# Altium footprint library Connector_PinSocket_2.54mm.PcbLib: 278 footprints (part 7 of 18)
Each footprint in its own frame and in the unit in brackets; x right, y up, seen from the top. Pads: shape width x height; smd on the part's side, far side on the other; paste and mask are expansions set on the pad; w line width, h text height; cw(c..) or ccw(c..) is an arc to the next point about the centre after c.
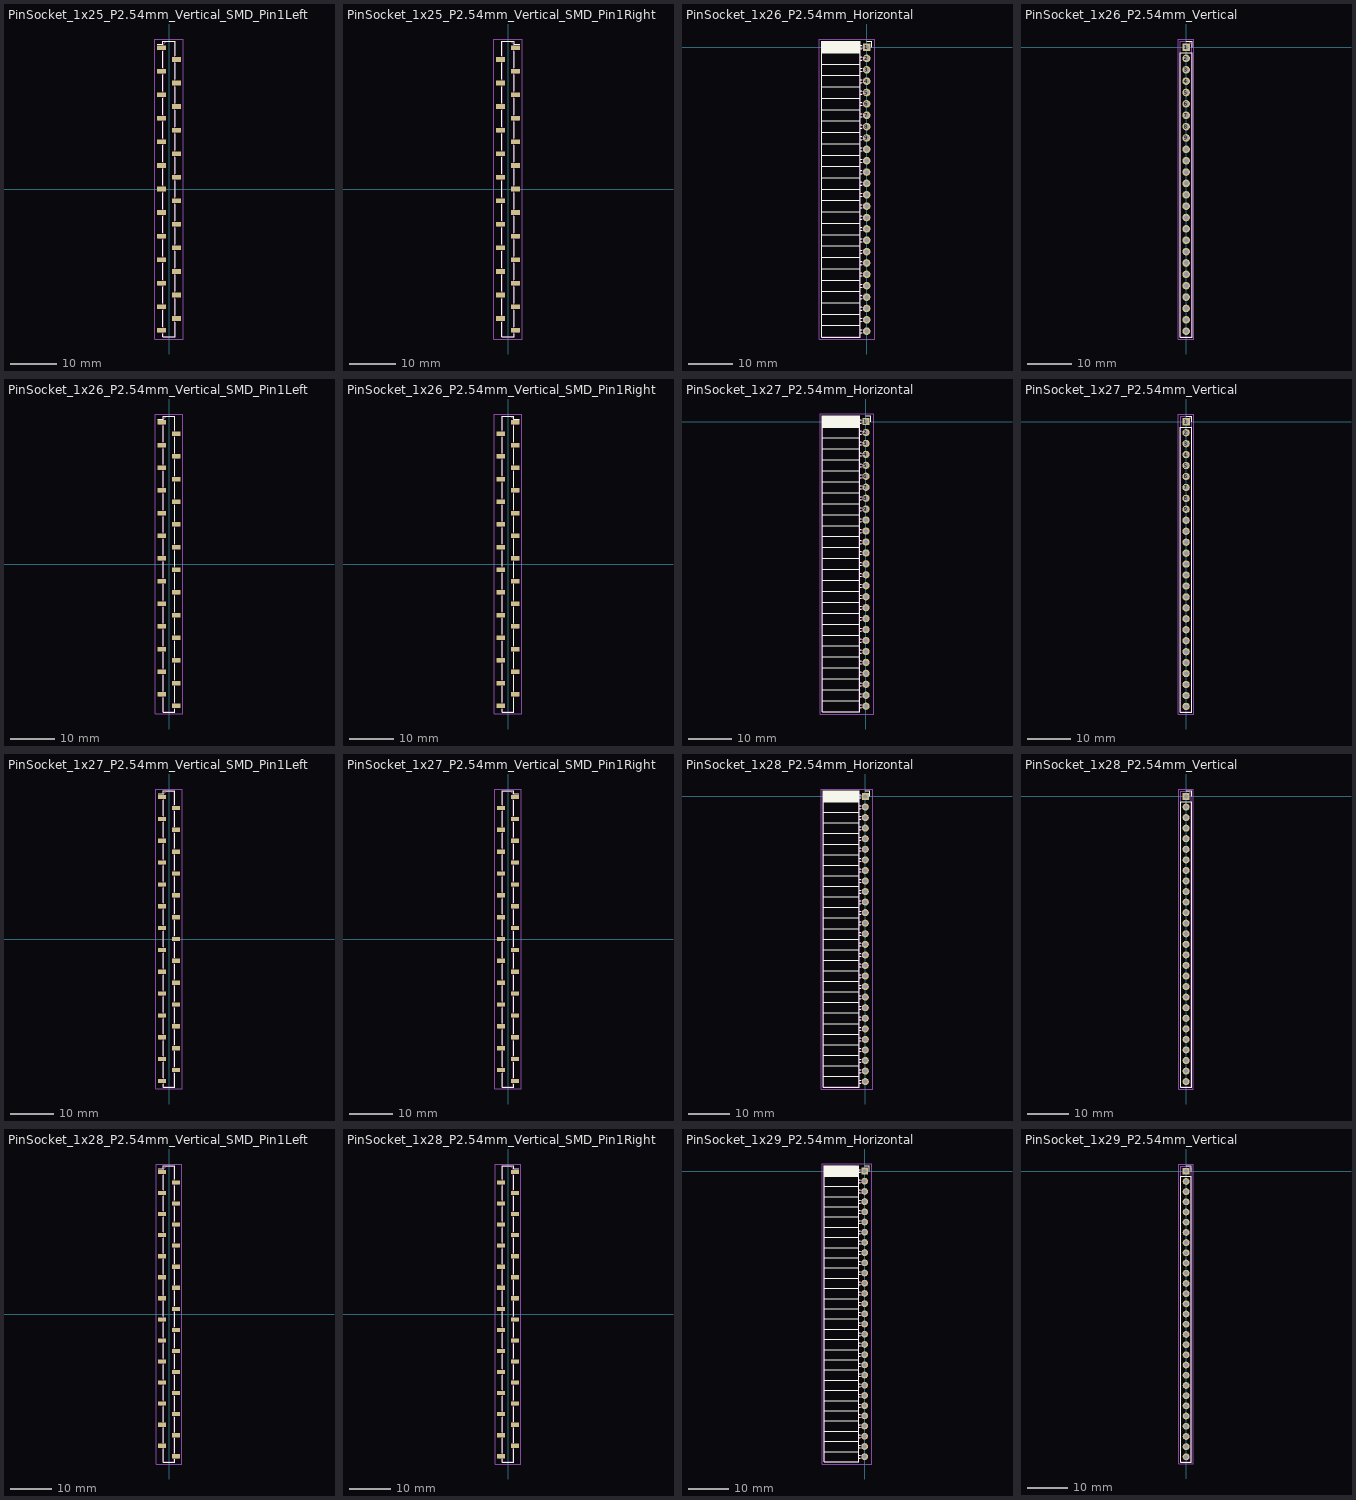
[diagram p6: the footprints below, top view; thin cyan lines are the x and y axes]

## PinSocket_1x25_P2.54mm_Vertical_SMD_Pin1Left [mm]
pads (25):
  rect 1.9x1 smd: 1(-1.65,30.48) 2(1.65,27.94) 3(-1.65,25.4) 4(1.65,22.86) 5(-1.65,20.32) 6(1.65,17.78) 7(-1.65,15.24) 8(1.65,12.7) 9(-1.65,10.16) 10(1.65,7.62) 11(-1.65,5.08) 12(1.65,2.54) 13(-1.65,0) 14(1.65,-2.54) 15(-1.65,-5.08) 16(1.65,-7.62) 17(-1.65,-10.16) 18(1.65,-12.7) 19(-1.65,-15.24) 20(1.65,-17.78) 21(-1.65,-20.32) 22(1.65,-22.86) 23(-1.65,-25.4) 24(1.65,-27.94) 25(-1.65,-30.48)
F.SilkS:
  lines w0.254: -2.54,31.24 -1.33,31.24 -1.33,31.91 1.33,31.91 1.33,28.7 ; -1.33,-31.24 -1.33,-31.91 1.33,-31.91 1.33,-28.7 ; -1.33,-29.72 -1.33,-26.16 ; -1.33,-24.64 -1.33,-21.08 ; -1.33,-19.56 -1.33,-16 ; -1.33,-14.48 -1.33,-10.92 ; -1.33,-9.4 -1.33,-5.84 ; -1.33,-4.32 -1.33,-0.76 ; -1.33,0.76 -1.33,4.32 ; -1.33,5.84 -1.33,9.4 ; -1.33,10.92 -1.33,14.48 ; -1.33,16 -1.33,19.56 ; -1.33,21.08 -1.33,24.64 ; -1.33,26.16 -1.33,29.72 ; 1.33,-27.18 1.33,-23.62 ; 1.33,-22.1 1.33,-18.54 ; 1.33,-17.02 1.33,-13.46 ; 1.33,-11.94 1.33,-8.38 ; 1.33,-6.86 1.33,-3.3 ; 1.33,-1.78 1.33,1.78 ; 1.33,3.3 1.33,6.86 ; 1.33,8.38 1.33,11.94 ; 1.33,13.46 1.33,17.02 ; 1.33,18.54 1.33,22.1 ; 1.33,23.62 1.33,27.18
Top Assembly:
  lines w0.254: -1.27,-30.78 -2.27,-30.78 -2.27,-30.18 -1.27,-30.18 ; -1.27,-25.7 -2.27,-25.7 -2.27,-25.1 -1.27,-25.1 ; -1.27,-20.62 -2.27,-20.62 -2.27,-20.02 -1.27,-20.02 ; -1.27,-15.54 -2.27,-15.54 -2.27,-14.94 -1.27,-14.94 ; -1.27,-10.46 -2.27,-10.46 -2.27,-9.86 -1.27,-9.86 ; -1.27,-5.38 -2.27,-5.38 -2.27,-4.78 -1.27,-4.78 ; -1.27,-0.3 -2.27,-0.3 -2.27,0.3 -1.27,0.3 ; -1.27,4.78 -2.27,4.78 -2.27,5.38 -1.27,5.38 ; -1.27,9.86 -2.27,9.86 -2.27,10.46 -1.27,10.46 ; -1.27,14.94 -2.27,14.94 -2.27,15.54 -1.27,15.54 ; -1.27,20.02 -2.27,20.02 -2.27,20.62 -1.27,20.62 ; -1.27,25.1 -2.27,25.1 -2.27,25.7 -1.27,25.7 ; -1.27,30.18 -2.27,30.18 -2.27,30.78 -1.27,30.78 ; 1.27,-28.24 2.27,-28.24 2.27,-27.64 1.27,-27.64 ; 1.27,-23.16 2.27,-23.16 2.27,-22.56 1.27,-22.56 ; 1.27,-18.08 2.27,-18.08 2.27,-17.48 1.27,-17.48 ; 1.27,-13 2.27,-13 2.27,-12.4 1.27,-12.4 ; 1.27,-7.92 2.27,-7.92 2.27,-7.32 1.27,-7.32 ; 1.27,-2.84 2.27,-2.84 2.27,-2.24 1.27,-2.24 ; 1.27,2.24 2.27,2.24 2.27,2.84 1.27,2.84 ; 1.27,7.32 2.27,7.32 2.27,7.92 1.27,7.92 ; 1.27,12.4 2.27,12.4 2.27,13 1.27,13 ; 1.27,17.48 2.27,17.48 2.27,18.08 1.27,18.08 ; 1.27,22.56 2.27,22.56 2.27,23.16 1.27,23.16 ; 1.27,27.64 2.27,27.64 2.27,28.24 1.27,28.24 ; -1.27,-31.85 1.27,-31.85 1.27,31.85 -0.635,31.85 -1.27,31.215 -1.27,-31.85
  text "'.Designator'" at 0.84,-4.047 h1
Top Courtyard:
  lines w0.254: -3.1,-32.35 3.1,-32.35 3.1,32.35 -3.1,32.35 -3.1,-32.35
Top Designator:
  text ".Designator" at -7.618,-0.508 h1.52

## PinSocket_1x25_P2.54mm_Vertical_SMD_Pin1Right [mm]
pads (25):
  rect 1.9x1 smd: 1(1.65,30.48) 2(-1.65,27.94) 3(1.65,25.4) 4(-1.65,22.86) 5(1.65,20.32) 6(-1.65,17.78) 7(1.65,15.24) 8(-1.65,12.7) 9(1.65,10.16) 10(-1.65,7.62) 11(1.65,5.08) 12(-1.65,2.54) 13(1.65,0) 14(-1.65,-2.54) 15(1.65,-5.08) 16(-1.65,-7.62) 17(1.65,-10.16) 18(-1.65,-12.7) 19(1.65,-15.24) 20(-1.65,-17.78) 21(1.65,-20.32) 22(-1.65,-22.86) 23(1.65,-25.4) 24(-1.65,-27.94) 25(1.65,-30.48)
F.SilkS:
  lines w0.254: -1.33,-28.7 -1.33,-31.91 1.33,-31.91 1.33,-31.24 ; -1.33,-27.18 -1.33,-23.62 ; -1.33,-22.1 -1.33,-18.54 ; -1.33,-17.02 -1.33,-13.46 ; -1.33,-11.94 -1.33,-8.38 ; -1.33,-6.86 -1.33,-3.3 ; -1.33,-1.78 -1.33,1.78 ; -1.33,3.3 -1.33,6.86 ; -1.33,8.38 -1.33,11.94 ; -1.33,13.46 -1.33,17.02 ; -1.33,18.54 -1.33,22.1 ; -1.33,23.62 -1.33,27.18 ; -1.33,28.7 -1.33,31.91 1.33,31.91 1.33,31.24 2.54,31.24 ; 1.33,-29.72 1.33,-26.16 ; 1.33,-24.64 1.33,-21.08 ; 1.33,-19.56 1.33,-16 ; 1.33,-14.48 1.33,-10.92 ; 1.33,-9.4 1.33,-5.84 ; 1.33,-4.32 1.33,-0.76 ; 1.33,0.76 1.33,4.32 ; 1.33,5.84 1.33,9.4 ; 1.33,10.92 1.33,14.48 ; 1.33,16 1.33,19.56 ; 1.33,21.08 1.33,24.64 ; 1.33,26.16 1.33,29.72
Top Assembly:
  lines w0.254: -1.27,-28.24 -2.27,-28.24 -2.27,-27.64 -1.27,-27.64 ; -1.27,-23.16 -2.27,-23.16 -2.27,-22.56 -1.27,-22.56 ; -1.27,-18.08 -2.27,-18.08 -2.27,-17.48 -1.27,-17.48 ; -1.27,-13 -2.27,-13 -2.27,-12.4 -1.27,-12.4 ; -1.27,-7.92 -2.27,-7.92 -2.27,-7.32 -1.27,-7.32 ; -1.27,-2.84 -2.27,-2.84 -2.27,-2.24 -1.27,-2.24 ; -1.27,2.24 -2.27,2.24 -2.27,2.84 -1.27,2.84 ; -1.27,7.32 -2.27,7.32 -2.27,7.92 -1.27,7.92 ; -1.27,12.4 -2.27,12.4 -2.27,13 -1.27,13 ; -1.27,17.48 -2.27,17.48 -2.27,18.08 -1.27,18.08 ; -1.27,22.56 -2.27,22.56 -2.27,23.16 -1.27,23.16 ; -1.27,27.64 -2.27,27.64 -2.27,28.24 -1.27,28.24 ; 1.27,-30.78 2.27,-30.78 2.27,-30.18 1.27,-30.18 ; 1.27,-25.7 2.27,-25.7 2.27,-25.1 1.27,-25.1 ; 1.27,-20.62 2.27,-20.62 2.27,-20.02 1.27,-20.02 ; 1.27,-15.54 2.27,-15.54 2.27,-14.94 1.27,-14.94 ; 1.27,-10.46 2.27,-10.46 2.27,-9.86 1.27,-9.86 ; 1.27,-5.38 2.27,-5.38 2.27,-4.78 1.27,-4.78 ; 1.27,-0.3 2.27,-0.3 2.27,0.3 1.27,0.3 ; 1.27,4.78 2.27,4.78 2.27,5.38 1.27,5.38 ; 1.27,9.86 2.27,9.86 2.27,10.46 1.27,10.46 ; 1.27,14.94 2.27,14.94 2.27,15.54 1.27,15.54 ; 1.27,20.02 2.27,20.02 2.27,20.62 1.27,20.62 ; 1.27,25.1 2.27,25.1 2.27,25.7 1.27,25.7 ; 1.27,30.18 2.27,30.18 2.27,30.78 1.27,30.78 ; -1.27,-31.85 1.27,-31.85 1.27,31.215 0.635,31.85 -1.27,31.85 -1.27,-31.85
  text "'.Designator'" at 0.84,-4.047 h1
Top Courtyard:
  lines w0.254: -3.1,-32.35 3.1,-32.35 3.1,32.35 -3.1,32.35 -3.1,-32.35
Top Designator:
  text ".Designator" at -7.618,-0.508 h1.52

## PinSocket_1x26_P2.54mm_Horizontal [mm]
pads (26):
  rect 1.7x1.7 hole 1: 1(0,0)
  round 1.7 hole 1: 2(0,-2.54) 3(0,-5.08) 4(0,-7.62) 5(0,-10.16) 6(0,-12.7) 7(0,-15.24) 8(0,-17.78) 9(0,-20.32) 10(0,-22.86) 11(0,-25.4) 12(0,-27.94) 13(0,-30.48) 14(0,-33.02) 15(0,-35.56) 16(0,-38.1) 17(0,-40.64) 18(0,-43.18) 19(0,-45.72) 20(0,-48.26) 21(0,-50.8) 22(0,-53.34) 23(0,-55.88) 24(0,-58.42) 25(0,-60.96) 26(0,-63.5)
F.SilkS:
  lines w0.254: -10.09,-62.23 -1.46,-62.23 ; -10.09,-59.69 -1.46,-59.69 ; -10.09,-57.15 -1.46,-57.15 ; -10.09,-54.61 -1.46,-54.61 ; -10.09,-52.07 -1.46,-52.07 ; -10.09,-49.53 -1.46,-49.53 ; -10.09,-46.99 -1.46,-46.99 ; -10.09,-44.45 -1.46,-44.45 ; -10.09,-41.91 -1.46,-41.91 ; -10.09,-39.37 -1.46,-39.37 ; -10.09,-36.83 -1.46,-36.83 ; -10.09,-34.29 -1.46,-34.29 ; -10.09,-31.75 -1.46,-31.75 ; -10.09,-29.21 -1.46,-29.21 ; -10.09,-26.67 -1.46,-26.67 ; -10.09,-24.13 -1.46,-24.13 ; -10.09,-21.59 -1.46,-21.59 ; -10.09,-19.05 -1.46,-19.05 ; -10.09,-16.51 -1.46,-16.51 ; -10.09,-13.97 -1.46,-13.97 ; -10.09,-11.43 -1.46,-11.43 ; -10.09,-8.89 -1.46,-8.89 ; -10.09,-6.35 -1.46,-6.35 ; -10.09,-3.81 -1.46,-3.81 ; -10.09,-1.27 -1.46,-1.27 ; -10.09,-1.152 -1.46,-1.152 ; -10.09,-1.034 -1.46,-1.034 ; -10.09,-0.916 -1.46,-0.916 ; -10.09,-0.798 -1.46,-0.798 ; -10.09,-0.68 -1.46,-0.68 ; -10.09,-0.561 -1.46,-0.561 ; -10.09,-0.443 -1.46,-0.443 ; -10.09,-0.325 -1.46,-0.325 ; -10.09,-0.207 -1.46,-0.207 ; -10.09,-0.089 -1.46,-0.089 ; -10.09,0.029 -1.46,0.029 ; -10.09,0.147 -1.46,0.147 ; -10.09,0.265 -1.46,0.265 ; -10.09,0.383 -1.46,0.383 ; -10.09,0.501 -1.46,0.501 ; -10.09,0.62 -1.46,0.62 ; -10.09,0.738 -1.46,0.738 ; -10.09,0.856 -1.46,0.856 ; -10.09,0.974 -1.46,0.974 ; -10.09,1.092 -1.46,1.092 ; -10.09,1.21 -1.46,1.21 ; -1.46,-63.86 -1.05,-63.86 ; -1.46,-63.14 -1.05,-63.14 ; -1.46,-61.32 -1.05,-61.32 ; -1.46,-60.6 -1.05,-60.6 ; -1.46,-58.78 -1.05,-58.78 ; -1.46,-58.06 -1.05,-58.06 ; -1.46,-56.24 -1.05,-56.24 ; -1.46,-55.52 -1.05,-55.52 ; -1.46,-53.7 -1.05,-53.7 ; -1.46,-52.98 -1.05,-52.98 ; -1.46,-51.16 -1.05,-51.16 ; -1.46,-50.44 -1.05,-50.44 ; -1.46,-48.62 -1.05,-48.62 ; -1.46,-47.9 -1.05,-47.9 ; -1.46,-46.08 -1.05,-46.08 ; -1.46,-45.36 -1.05,-45.36 ; -1.46,-43.54 -1.05,-43.54 ; -1.46,-42.82 -1.05,-42.82 ; -1.46,-41 -1.05,-41 ; -1.46,-40.28 -1.05,-40.28 ; -1.46,-38.46 -1.05,-38.46 ; -1.46,-37.74 -1.05,-37.74 ; -1.46,-35.92 -1.05,-35.92 ; -1.46,-35.2 -1.05,-35.2 ; -1.46,-33.38 -1.05,-33.38 ; -1.46,-32.66 -1.05,-32.66 ; -1.46,-30.84 -1.05,-30.84 ; -1.46,-30.12 -1.05,-30.12 ; -1.46,-28.3 -1.05,-28.3 ; -1.46,-27.58 -1.05,-27.58 ; -1.46,-25.76 -1.05,-25.76 ; -1.46,-25.04 -1.05,-25.04 ; -1.46,-23.22 -1.05,-23.22 ; -1.46,-22.5 -1.05,-22.5 ; -1.46,-20.68 -1.05,-20.68 ; -1.46,-19.96 -1.05,-19.96 ; -1.46,-18.14 -1.05,-18.14 ; -1.46,-17.42 -1.05,-17.42 ; -1.46,-15.6 -1.05,-15.6 ; -1.46,-14.88 -1.05,-14.88 ; -1.46,-13.06 -1.05,-13.06 ; -1.46,-12.34 -1.05,-12.34 ; -1.46,-10.52 -1.05,-10.52 ; -1.46,-9.8 -1.05,-9.8 ; -1.46,-7.98 -1.05,-7.98 ; -1.46,-7.26 -1.05,-7.26 ; -1.46,-5.44 -1.05,-5.44 ; -1.46,-4.72 -1.05,-4.72 ; -1.46,-2.9 -1.05,-2.9 ; -1.46,-2.18 -1.05,-2.18 ; -1.46,-0.36 -1.11,-0.36 ; -1.46,0.36 -1.11,0.36 ; 0,1.33 1.11,1.33 1.11,0 ; -10.09,-64.83 -1.46,-64.83 -1.46,1.33 -10.09,1.33 -10.09,-64.83
Top Assembly:
  lines w0.254: -1.52,-63.8 0,-63.8 0,-63.2 -1.52,-63.2 ; -1.52,-61.26 0,-61.26 0,-60.66 -1.52,-60.66 ; -1.52,-58.72 0,-58.72 0,-58.12 -1.52,-58.12 ; -1.52,-56.18 0,-56.18 0,-55.58 -1.52,-55.58 ; -1.52,-53.64 0,-53.64 0,-53.04 -1.52,-53.04 ; -1.52,-51.1 0,-51.1 0,-50.5 -1.52,-50.5 ; -1.52,-48.56 0,-48.56 0,-47.96 -1.52,-47.96 ; -1.52,-46.02 0,-46.02 0,-45.42 -1.52,-45.42 ; -1.52,-43.48 0,-43.48 0,-42.88 -1.52,-42.88 ; -1.52,-40.94 0,-40.94 0,-40.34 -1.52,-40.34 ; -1.52,-38.4 0,-38.4 0,-37.8 -1.52,-37.8 ; -1.52,-35.86 0,-35.86 0,-35.26 -1.52,-35.26 ; -1.52,-33.32 0,-33.32 0,-32.72 -1.52,-32.72 ; -1.52,-30.78 0,-30.78 0,-30.18 -1.52,-30.18 ; -1.52,-28.24 0,-28.24 0,-27.64 -1.52,-27.64 ; -1.52,-25.7 0,-25.7 0,-25.1 -1.52,-25.1 ; -1.52,-23.16 0,-23.16 0,-22.56 -1.52,-22.56 ; -1.52,-20.62 0,-20.62 0,-20.02 -1.52,-20.02 ; -1.52,-18.08 0,-18.08 0,-17.48 -1.52,-17.48 ; -1.52,-15.54 0,-15.54 0,-14.94 -1.52,-14.94 ; -1.52,-13 0,-13 0,-12.4 -1.52,-12.4 ; -1.52,-10.46 0,-10.46 0,-9.86 -1.52,-9.86 ; -1.52,-7.92 0,-7.92 0,-7.32 -1.52,-7.32 ; -1.52,-5.38 0,-5.38 0,-4.78 -1.52,-4.78 ; -1.52,-2.84 0,-2.84 0,-2.24 -1.52,-2.24 ; -1.52,-0.3 0,-0.3 0,0.3 -1.52,0.3 ; -1.52,0.3 -1.52,-64.77 -10.03,-64.77 -10.03,1.27 -2.49,1.27 -1.52,0.3
  text "'.Designator'" at -4.935,-35.797 h1
Top Courtyard:
  lines w0.254: -10.55,-65.25 1.75,-65.25 1.75,1.8 -10.55,1.8 -10.55,-65.25
Top Designator:
  text ".Designator" at -12.018,-32.233 h1.52

## PinSocket_1x26_P2.54mm_Vertical [mm]
pads (26):
  rect 1.7x1.7 hole 1: 1(0,0)
  round 1.7 hole 1: 2(0,-2.54) 3(0,-5.08) 4(0,-7.62) 5(0,-10.16) 6(0,-12.7) 7(0,-15.24) 8(0,-17.78) 9(0,-20.32) 10(0,-22.86) 11(0,-25.4) 12(0,-27.94) 13(0,-30.48) 14(0,-33.02) 15(0,-35.56) 16(0,-38.1) 17(0,-40.64) 18(0,-43.18) 19(0,-45.72) 20(0,-48.26) 21(0,-50.8) 22(0,-53.34) 23(0,-55.88) 24(0,-58.42) 25(0,-60.96) 26(0,-63.5)
F.SilkS:
  lines w0.254: 0,1.33 1.33,1.33 1.33,0 ; -1.33,-64.83 1.33,-64.83 1.33,-1.27 -1.33,-1.27 -1.33,-64.83
Top Assembly:
  lines w0.254: -1.27,-64.77 1.27,-64.77 1.27,0.635 0.635,1.27 -1.27,1.27 -1.27,-64.77
  text "'.Designator'" at 0.84,-35.797 h1
Top Courtyard:
  lines w0.254: -1.8,-65.25 1.75,-65.25 1.75,1.8 -1.8,1.8 -1.8,-65.25
Top Designator:
  text ".Designator" at -7.643,-32.233 h1.52

## PinSocket_1x26_P2.54mm_Vertical_SMD_Pin1Left [mm]
pads (26):
  rect 1.9x1 smd: 1(-1.65,31.75) 2(1.65,29.21) 3(-1.65,26.67) 4(1.65,24.13) 5(-1.65,21.59) 6(1.65,19.05) 7(-1.65,16.51) 8(1.65,13.97) 9(-1.65,11.43) 10(1.65,8.89) 11(-1.65,6.35) 12(1.65,3.81) 13(-1.65,1.27) 14(1.65,-1.27) 15(-1.65,-3.81) 16(1.65,-6.35) 17(-1.65,-8.89) 18(1.65,-11.43) 19(-1.65,-13.97) 20(1.65,-16.51) 21(-1.65,-19.05) 22(1.65,-21.59) 23(-1.65,-24.13) 24(1.65,-26.67) 25(-1.65,-29.21) 26(1.65,-31.75)
F.SilkS:
  lines w0.254: -2.54,32.51 -1.33,32.51 -1.33,33.18 1.33,33.18 1.33,29.97 ; -1.33,-29.97 -1.33,-33.18 1.33,-33.18 1.33,-32.51 ; -1.33,-28.45 -1.33,-24.89 ; -1.33,-23.37 -1.33,-19.81 ; -1.33,-18.29 -1.33,-14.73 ; -1.33,-13.21 -1.33,-9.65 ; -1.33,-8.13 -1.33,-4.57 ; -1.33,-3.05 -1.33,0.51 ; -1.33,2.03 -1.33,5.59 ; -1.33,7.11 -1.33,10.67 ; -1.33,12.19 -1.33,15.75 ; -1.33,17.27 -1.33,20.83 ; -1.33,22.35 -1.33,25.91 ; -1.33,27.43 -1.33,30.99 ; 1.33,-30.99 1.33,-27.43 ; 1.33,-25.91 1.33,-22.35 ; 1.33,-20.83 1.33,-17.27 ; 1.33,-15.75 1.33,-12.19 ; 1.33,-10.67 1.33,-7.11 ; 1.33,-5.59 1.33,-2.03 ; 1.33,-0.51 1.33,3.05 ; 1.33,4.57 1.33,8.13 ; 1.33,9.65 1.33,13.21 ; 1.33,14.73 1.33,18.29 ; 1.33,19.81 1.33,23.37 ; 1.33,24.89 1.33,28.45
Top Assembly:
  lines w0.254: -1.27,-29.51 -2.27,-29.51 -2.27,-28.91 -1.27,-28.91 ; -1.27,-24.43 -2.27,-24.43 -2.27,-23.83 -1.27,-23.83 ; -1.27,-19.35 -2.27,-19.35 -2.27,-18.75 -1.27,-18.75 ; -1.27,-14.27 -2.27,-14.27 -2.27,-13.67 -1.27,-13.67 ; -1.27,-9.19 -2.27,-9.19 -2.27,-8.59 -1.27,-8.59 ; -1.27,-4.11 -2.27,-4.11 -2.27,-3.51 -1.27,-3.51 ; -1.27,0.97 -2.27,0.97 -2.27,1.57 -1.27,1.57 ; -1.27,6.05 -2.27,6.05 -2.27,6.65 -1.27,6.65 ; -1.27,11.13 -2.27,11.13 -2.27,11.73 -1.27,11.73 ; -1.27,16.21 -2.27,16.21 -2.27,16.81 -1.27,16.81 ; -1.27,21.29 -2.27,21.29 -2.27,21.89 -1.27,21.89 ; -1.27,26.37 -2.27,26.37 -2.27,26.97 -1.27,26.97 ; -1.27,31.45 -2.27,31.45 -2.27,32.05 -1.27,32.05 ; 1.27,-32.05 2.27,-32.05 2.27,-31.45 1.27,-31.45 ; 1.27,-26.97 2.27,-26.97 2.27,-26.37 1.27,-26.37 ; 1.27,-21.89 2.27,-21.89 2.27,-21.29 1.27,-21.29 ; 1.27,-16.81 2.27,-16.81 2.27,-16.21 1.27,-16.21 ; 1.27,-11.73 2.27,-11.73 2.27,-11.13 1.27,-11.13 ; 1.27,-6.65 2.27,-6.65 2.27,-6.05 1.27,-6.05 ; 1.27,-1.57 2.27,-1.57 2.27,-0.97 1.27,-0.97 ; 1.27,3.51 2.27,3.51 2.27,4.11 1.27,4.11 ; 1.27,8.59 2.27,8.59 2.27,9.19 1.27,9.19 ; 1.27,13.67 2.27,13.67 2.27,14.27 1.27,14.27 ; 1.27,18.75 2.27,18.75 2.27,19.35 1.27,19.35 ; 1.27,23.83 2.27,23.83 2.27,24.43 1.27,24.43 ; 1.27,28.91 2.27,28.91 2.27,29.51 1.27,29.51 ; -1.27,-33.12 1.27,-33.12 1.27,33.12 -0.635,33.12 -1.27,32.485 -1.27,-33.12
  text "'.Designator'" at 0.84,-4.047 h1
Top Courtyard:
  lines w0.254: -3.1,-33.6 3.1,-33.6 3.1,33.65 -3.1,33.65 -3.1,-33.6
Top Designator:
  text ".Designator" at -7.618,-0.483 h1.52

## PinSocket_1x26_P2.54mm_Vertical_SMD_Pin1Right [mm]
pads (26):
  rect 1.9x1 smd: 1(1.65,31.75) 2(-1.65,29.21) 3(1.65,26.67) 4(-1.65,24.13) 5(1.65,21.59) 6(-1.65,19.05) 7(1.65,16.51) 8(-1.65,13.97) 9(1.65,11.43) 10(-1.65,8.89) 11(1.65,6.35) 12(-1.65,3.81) 13(1.65,1.27) 14(-1.65,-1.27) 15(1.65,-3.81) 16(-1.65,-6.35) 17(1.65,-8.89) 18(-1.65,-11.43) 19(1.65,-13.97) 20(-1.65,-16.51) 21(1.65,-19.05) 22(-1.65,-21.59) 23(1.65,-24.13) 24(-1.65,-26.67) 25(1.65,-29.21) 26(-1.65,-31.75)
F.SilkS:
  lines w0.254: -1.33,-32.51 -1.33,-33.18 1.33,-33.18 1.33,-29.97 ; -1.33,-30.99 -1.33,-27.43 ; -1.33,-25.91 -1.33,-22.35 ; -1.33,-20.83 -1.33,-17.27 ; -1.33,-15.75 -1.33,-12.19 ; -1.33,-10.67 -1.33,-7.11 ; -1.33,-5.59 -1.33,-2.03 ; -1.33,-0.51 -1.33,3.05 ; -1.33,4.57 -1.33,8.13 ; -1.33,9.65 -1.33,13.21 ; -1.33,14.73 -1.33,18.29 ; -1.33,19.81 -1.33,23.37 ; -1.33,24.89 -1.33,28.45 ; -1.33,29.97 -1.33,33.18 1.33,33.18 1.33,32.51 2.54,32.51 ; 1.33,-28.45 1.33,-24.89 ; 1.33,-23.37 1.33,-19.81 ; 1.33,-18.29 1.33,-14.73 ; 1.33,-13.21 1.33,-9.65 ; 1.33,-8.13 1.33,-4.57 ; 1.33,-3.05 1.33,0.51 ; 1.33,2.03 1.33,5.59 ; 1.33,7.11 1.33,10.67 ; 1.33,12.19 1.33,15.75 ; 1.33,17.27 1.33,20.83 ; 1.33,22.35 1.33,25.91 ; 1.33,27.43 1.33,30.99
Top Assembly:
  lines w0.254: -1.27,-32.05 -2.27,-32.05 -2.27,-31.45 -1.27,-31.45 ; -1.27,-26.97 -2.27,-26.97 -2.27,-26.37 -1.27,-26.37 ; -1.27,-21.89 -2.27,-21.89 -2.27,-21.29 -1.27,-21.29 ; -1.27,-16.81 -2.27,-16.81 -2.27,-16.21 -1.27,-16.21 ; -1.27,-11.73 -2.27,-11.73 -2.27,-11.13 -1.27,-11.13 ; -1.27,-6.65 -2.27,-6.65 -2.27,-6.05 -1.27,-6.05 ; -1.27,-1.57 -2.27,-1.57 -2.27,-0.97 -1.27,-0.97 ; -1.27,3.51 -2.27,3.51 -2.27,4.11 -1.27,4.11 ; -1.27,8.59 -2.27,8.59 -2.27,9.19 -1.27,9.19 ; -1.27,13.67 -2.27,13.67 -2.27,14.27 -1.27,14.27 ; -1.27,18.75 -2.27,18.75 -2.27,19.35 -1.27,19.35 ; -1.27,23.83 -2.27,23.83 -2.27,24.43 -1.27,24.43 ; -1.27,28.91 -2.27,28.91 -2.27,29.51 -1.27,29.51 ; 1.27,-29.51 2.27,-29.51 2.27,-28.91 1.27,-28.91 ; 1.27,-24.43 2.27,-24.43 2.27,-23.83 1.27,-23.83 ; 1.27,-19.35 2.27,-19.35 2.27,-18.75 1.27,-18.75 ; 1.27,-14.27 2.27,-14.27 2.27,-13.67 1.27,-13.67 ; 1.27,-9.19 2.27,-9.19 2.27,-8.59 1.27,-8.59 ; 1.27,-4.11 2.27,-4.11 2.27,-3.51 1.27,-3.51 ; 1.27,0.97 2.27,0.97 2.27,1.57 1.27,1.57 ; 1.27,6.05 2.27,6.05 2.27,6.65 1.27,6.65 ; 1.27,11.13 2.27,11.13 2.27,11.73 1.27,11.73 ; 1.27,16.21 2.27,16.21 2.27,16.81 1.27,16.81 ; 1.27,21.29 2.27,21.29 2.27,21.89 1.27,21.89 ; 1.27,26.37 2.27,26.37 2.27,26.97 1.27,26.97 ; 1.27,31.45 2.27,31.45 2.27,32.05 1.27,32.05 ; -1.27,-33.12 1.27,-33.12 1.27,32.485 0.635,33.12 -1.27,33.12 -1.27,-33.12
  text "'.Designator'" at 0.84,-4.047 h1
Top Courtyard:
  lines w0.254: -3.1,-33.6 3.1,-33.6 3.1,33.65 -3.1,33.65 -3.1,-33.6
Top Designator:
  text ".Designator" at -7.618,-0.483 h1.52

## PinSocket_1x27_P2.54mm_Horizontal [mm]
pads (27):
  rect 1.7x1.7 hole 1: 1(0,0)
  round 1.7 hole 1: 2(0,-2.54) 3(0,-5.08) 4(0,-7.62) 5(0,-10.16) 6(0,-12.7) 7(0,-15.24) 8(0,-17.78) 9(0,-20.32) 10(0,-22.86) 11(0,-25.4) 12(0,-27.94) 13(0,-30.48) 14(0,-33.02) 15(0,-35.56) 16(0,-38.1) 17(0,-40.64) 18(0,-43.18) 19(0,-45.72) 20(0,-48.26) 21(0,-50.8) 22(0,-53.34) 23(0,-55.88) 24(0,-58.42) 25(0,-60.96) 26(0,-63.5) 27(0,-66.04)
F.SilkS:
  lines w0.254: -10.09,-64.77 -1.46,-64.77 ; -10.09,-62.23 -1.46,-62.23 ; -10.09,-59.69 -1.46,-59.69 ; -10.09,-57.15 -1.46,-57.15 ; -10.09,-54.61 -1.46,-54.61 ; -10.09,-52.07 -1.46,-52.07 ; -10.09,-49.53 -1.46,-49.53 ; -10.09,-46.99 -1.46,-46.99 ; -10.09,-44.45 -1.46,-44.45 ; -10.09,-41.91 -1.46,-41.91 ; -10.09,-39.37 -1.46,-39.37 ; -10.09,-36.83 -1.46,-36.83 ; -10.09,-34.29 -1.46,-34.29 ; -10.09,-31.75 -1.46,-31.75 ; -10.09,-29.21 -1.46,-29.21 ; -10.09,-26.67 -1.46,-26.67 ; -10.09,-24.13 -1.46,-24.13 ; -10.09,-21.59 -1.46,-21.59 ; -10.09,-19.05 -1.46,-19.05 ; -10.09,-16.51 -1.46,-16.51 ; -10.09,-13.97 -1.46,-13.97 ; -10.09,-11.43 -1.46,-11.43 ; -10.09,-8.89 -1.46,-8.89 ; -10.09,-6.35 -1.46,-6.35 ; -10.09,-3.81 -1.46,-3.81 ; -10.09,-1.27 -1.46,-1.27 ; -10.09,-1.152 -1.46,-1.152 ; -10.09,-1.034 -1.46,-1.034 ; -10.09,-0.916 -1.46,-0.916 ; -10.09,-0.798 -1.46,-0.798 ; -10.09,-0.68 -1.46,-0.68 ; -10.09,-0.561 -1.46,-0.561 ; -10.09,-0.443 -1.46,-0.443 ; -10.09,-0.325 -1.46,-0.325 ; -10.09,-0.207 -1.46,-0.207 ; -10.09,-0.089 -1.46,-0.089 ; -10.09,0.029 -1.46,0.029 ; -10.09,0.147 -1.46,0.147 ; -10.09,0.265 -1.46,0.265 ; -10.09,0.383 -1.46,0.383 ; -10.09,0.501 -1.46,0.501 ; -10.09,0.62 -1.46,0.62 ; -10.09,0.738 -1.46,0.738 ; -10.09,0.856 -1.46,0.856 ; -10.09,0.974 -1.46,0.974 ; -10.09,1.092 -1.46,1.092 ; -10.09,1.21 -1.46,1.21 ; -1.46,-66.4 -1.05,-66.4 ; -1.46,-65.68 -1.05,-65.68 ; -1.46,-63.86 -1.05,-63.86 ; -1.46,-63.14 -1.05,-63.14 ; -1.46,-61.32 -1.05,-61.32 ; -1.46,-60.6 -1.05,-60.6 ; -1.46,-58.78 -1.05,-58.78 ; -1.46,-58.06 -1.05,-58.06 ; -1.46,-56.24 -1.05,-56.24 ; -1.46,-55.52 -1.05,-55.52 ; -1.46,-53.7 -1.05,-53.7 ; -1.46,-52.98 -1.05,-52.98 ; -1.46,-51.16 -1.05,-51.16 ; -1.46,-50.44 -1.05,-50.44 ; -1.46,-48.62 -1.05,-48.62 ; -1.46,-47.9 -1.05,-47.9 ; -1.46,-46.08 -1.05,-46.08 ; -1.46,-45.36 -1.05,-45.36 ; -1.46,-43.54 -1.05,-43.54 ; -1.46,-42.82 -1.05,-42.82 ; -1.46,-41 -1.05,-41 ; -1.46,-40.28 -1.05,-40.28 ; -1.46,-38.46 -1.05,-38.46 ; -1.46,-37.74 -1.05,-37.74 ; -1.46,-35.92 -1.05,-35.92 ; -1.46,-35.2 -1.05,-35.2 ; -1.46,-33.38 -1.05,-33.38 ; -1.46,-32.66 -1.05,-32.66 ; -1.46,-30.84 -1.05,-30.84 ; -1.46,-30.12 -1.05,-30.12 ; -1.46,-28.3 -1.05,-28.3 ; -1.46,-27.58 -1.05,-27.58 ; -1.46,-25.76 -1.05,-25.76 ; -1.46,-25.04 -1.05,-25.04 ; -1.46,-23.22 -1.05,-23.22 ; -1.46,-22.5 -1.05,-22.5 ; -1.46,-20.68 -1.05,-20.68 ; -1.46,-19.96 -1.05,-19.96 ; -1.46,-18.14 -1.05,-18.14 ; -1.46,-17.42 -1.05,-17.42 ; -1.46,-15.6 -1.05,-15.6 ; -1.46,-14.88 -1.05,-14.88 ; -1.46,-13.06 -1.05,-13.06 ; -1.46,-12.34 -1.05,-12.34 ; -1.46,-10.52 -1.05,-10.52 ; -1.46,-9.8 -1.05,-9.8 ; -1.46,-7.98 -1.05,-7.98 ; -1.46,-7.26 -1.05,-7.26 ; -1.46,-5.44 -1.05,-5.44 ; -1.46,-4.72 -1.05,-4.72 ; -1.46,-2.9 -1.05,-2.9 ; -1.46,-2.18 -1.05,-2.18 ; -1.46,-0.36 -1.11,-0.36 ; -1.46,0.36 -1.11,0.36 ; 0,1.33 1.11,1.33 1.11,0 ; -10.09,-67.37 -1.46,-67.37 -1.46,1.33 -10.09,1.33 -10.09,-67.37
Top Assembly:
  lines w0.254: -1.52,-66.34 0,-66.34 0,-65.74 -1.52,-65.74 ; -1.52,-63.8 0,-63.8 0,-63.2 -1.52,-63.2 ; -1.52,-61.26 0,-61.26 0,-60.66 -1.52,-60.66 ; -1.52,-58.72 0,-58.72 0,-58.12 -1.52,-58.12 ; -1.52,-56.18 0,-56.18 0,-55.58 -1.52,-55.58 ; -1.52,-53.64 0,-53.64 0,-53.04 -1.52,-53.04 ; -1.52,-51.1 0,-51.1 0,-50.5 -1.52,-50.5 ; -1.52,-48.56 0,-48.56 0,-47.96 -1.52,-47.96 ; -1.52,-46.02 0,-46.02 0,-45.42 -1.52,-45.42 ; -1.52,-43.48 0,-43.48 0,-42.88 -1.52,-42.88 ; -1.52,-40.94 0,-40.94 0,-40.34 -1.52,-40.34 ; -1.52,-38.4 0,-38.4 0,-37.8 -1.52,-37.8 ; -1.52,-35.86 0,-35.86 0,-35.26 -1.52,-35.26 ; -1.52,-33.32 0,-33.32 0,-32.72 -1.52,-32.72 ; -1.52,-30.78 0,-30.78 0,-30.18 -1.52,-30.18 ; -1.52,-28.24 0,-28.24 0,-27.64 -1.52,-27.64 ; -1.52,-25.7 0,-25.7 0,-25.1 -1.52,-25.1 ; -1.52,-23.16 0,-23.16 0,-22.56 -1.52,-22.56 ; -1.52,-20.62 0,-20.62 0,-20.02 -1.52,-20.02 ; -1.52,-18.08 0,-18.08 0,-17.48 -1.52,-17.48 ; -1.52,-15.54 0,-15.54 0,-14.94 -1.52,-14.94 ; -1.52,-13 0,-13 0,-12.4 -1.52,-12.4 ; -1.52,-10.46 0,-10.46 0,-9.86 -1.52,-9.86 ; -1.52,-7.92 0,-7.92 0,-7.32 -1.52,-7.32 ; -1.52,-5.38 0,-5.38 0,-4.78 -1.52,-4.78 ; -1.52,-2.84 0,-2.84 0,-2.24 -1.52,-2.24 ; -1.52,-0.3 0,-0.3 0,0.3 -1.52,0.3 ; -1.52,0.3 -1.52,-67.31 -10.03,-67.31 -10.03,1.27 -2.49,1.27 -1.52,0.3
  text "'.Designator'" at -4.935,-37.067 h1
Top Courtyard:
  lines w0.254: -10.55,-67.85 1.75,-67.85 1.75,1.75 -10.55,1.75 -10.55,-67.85
Top Designator:
  text ".Designator" at -12.018,-33.558 h1.52

## PinSocket_1x27_P2.54mm_Vertical [mm]
pads (27):
  rect 1.7x1.7 hole 1: 1(0,0)
  round 1.7 hole 1: 2(0,-2.54) 3(0,-5.08) 4(0,-7.62) 5(0,-10.16) 6(0,-12.7) 7(0,-15.24) 8(0,-17.78) 9(0,-20.32) 10(0,-22.86) 11(0,-25.4) 12(0,-27.94) 13(0,-30.48) 14(0,-33.02) 15(0,-35.56) 16(0,-38.1) 17(0,-40.64) 18(0,-43.18) 19(0,-45.72) 20(0,-48.26) 21(0,-50.8) 22(0,-53.34) 23(0,-55.88) 24(0,-58.42) 25(0,-60.96) 26(0,-63.5) 27(0,-66.04)
F.SilkS:
  lines w0.254: 0,1.33 1.33,1.33 1.33,0 ; -1.33,-67.37 1.33,-67.37 1.33,-1.27 -1.33,-1.27 -1.33,-67.37
Top Assembly:
  lines w0.254: -1.27,-67.31 1.27,-67.31 1.27,0.635 0.635,1.27 -1.27,1.27 -1.27,-67.31
  text "'.Designator'" at 0.84,-37.067 h1
Top Courtyard:
  lines w0.254: -1.8,-67.8 1.75,-67.8 1.75,1.8 -1.8,1.8 -1.8,-67.8
Top Designator:
  text ".Designator" at -7.643,-33.508 h1.52

## PinSocket_1x27_P2.54mm_Vertical_SMD_Pin1Left [mm]
pads (27):
  rect 1.9x1 smd: 1(-1.65,33.02) 2(1.65,30.48) 3(-1.65,27.94) 4(1.65,25.4) 5(-1.65,22.86) 6(1.65,20.32) 7(-1.65,17.78) 8(1.65,15.24) 9(-1.65,12.7) 10(1.65,10.16) 11(-1.65,7.62) 12(1.65,5.08) 13(-1.65,2.54) 14(1.65,0) 15(-1.65,-2.54) 16(1.65,-5.08) 17(-1.65,-7.62) 18(1.65,-10.16) 19(-1.65,-12.7) 20(1.65,-15.24) 21(-1.65,-17.78) 22(1.65,-20.32) 23(-1.65,-22.86) 24(1.65,-25.4) 25(-1.65,-27.94) 26(1.65,-30.48) 27(-1.65,-33.02)
F.SilkS:
  lines w0.254: -2.54,33.78 -1.33,33.78 -1.33,34.45 1.33,34.45 1.33,31.24 ; -1.33,-33.78 -1.33,-34.45 1.33,-34.45 1.33,-31.24 ; -1.33,-32.26 -1.33,-28.7 ; -1.33,-27.18 -1.33,-23.62 ; -1.33,-22.1 -1.33,-18.54 ; -1.33,-17.02 -1.33,-13.46 ; -1.33,-11.94 -1.33,-8.38 ; -1.33,-6.86 -1.33,-3.3 ; -1.33,-1.78 -1.33,1.78 ; -1.33,3.3 -1.33,6.86 ; -1.33,8.38 -1.33,11.94 ; -1.33,13.46 -1.33,17.02 ; -1.33,18.54 -1.33,22.1 ; -1.33,23.62 -1.33,27.18 ; -1.33,28.7 -1.33,32.26 ; 1.33,-29.72 1.33,-26.16 ; 1.33,-24.64 1.33,-21.08 ; 1.33,-19.56 1.33,-16 ; 1.33,-14.48 1.33,-10.92 ; 1.33,-9.4 1.33,-5.84 ; 1.33,-4.32 1.33,-0.76 ; 1.33,0.76 1.33,4.32 ; 1.33,5.84 1.33,9.4 ; 1.33,10.92 1.33,14.48 ; 1.33,16 1.33,19.56 ; 1.33,21.08 1.33,24.64 ; 1.33,26.16 1.33,29.72
Top Assembly:
  lines w0.254: -1.27,-33.32 -2.27,-33.32 -2.27,-32.72 -1.27,-32.72 ; -1.27,-28.24 -2.27,-28.24 -2.27,-27.64 -1.27,-27.64 ; -1.27,-23.16 -2.27,-23.16 -2.27,-22.56 -1.27,-22.56 ; -1.27,-18.08 -2.27,-18.08 -2.27,-17.48 -1.27,-17.48 ; -1.27,-13 -2.27,-13 -2.27,-12.4 -1.27,-12.4 ; -1.27,-7.92 -2.27,-7.92 -2.27,-7.32 -1.27,-7.32 ; -1.27,-2.84 -2.27,-2.84 -2.27,-2.24 -1.27,-2.24 ; -1.27,2.24 -2.27,2.24 -2.27,2.84 -1.27,2.84 ; -1.27,7.32 -2.27,7.32 -2.27,7.92 -1.27,7.92 ; -1.27,12.4 -2.27,12.4 -2.27,13 -1.27,13 ; -1.27,17.48 -2.27,17.48 -2.27,18.08 -1.27,18.08 ; -1.27,22.56 -2.27,22.56 -2.27,23.16 -1.27,23.16 ; -1.27,27.64 -2.27,27.64 -2.27,28.24 -1.27,28.24 ; -1.27,32.72 -2.27,32.72 -2.27,33.32 -1.27,33.32 ; 1.27,-30.78 2.27,-30.78 2.27,-30.18 1.27,-30.18 ; 1.27,-25.7 2.27,-25.7 2.27,-25.1 1.27,-25.1 ; 1.27,-20.62 2.27,-20.62 2.27,-20.02 1.27,-20.02 ; 1.27,-15.54 2.27,-15.54 2.27,-14.94 1.27,-14.94 ; 1.27,-10.46 2.27,-10.46 2.27,-9.86 1.27,-9.86 ; 1.27,-5.38 2.27,-5.38 2.27,-4.78 1.27,-4.78 ; 1.27,-0.3 2.27,-0.3 2.27,0.3 1.27,0.3 ; 1.27,4.78 2.27,4.78 2.27,5.38 1.27,5.38 ; 1.27,9.86 2.27,9.86 2.27,10.46 1.27,10.46 ; 1.27,14.94 2.27,14.94 2.27,15.54 1.27,15.54 ; 1.27,20.02 2.27,20.02 2.27,20.62 1.27,20.62 ; 1.27,25.1 2.27,25.1 2.27,25.7 1.27,25.7 ; 1.27,30.18 2.27,30.18 2.27,30.78 1.27,30.78 ; -1.27,-34.39 1.27,-34.39 1.27,34.39 -0.635,34.39 -1.27,33.755 -1.27,-34.39
  text "'.Designator'" at 0.84,-4.047 h1
Top Courtyard:
  lines w0.254: -3.1,-34.9 3.1,-34.9 3.1,34.9 -3.1,34.9 -3.1,-34.9
Top Designator:
  text ".Designator" at -7.618,-0.508 h1.52

## PinSocket_1x27_P2.54mm_Vertical_SMD_Pin1Right [mm]
pads (27):
  rect 1.9x1 smd: 1(1.65,33.02) 2(-1.65,30.48) 3(1.65,27.94) 4(-1.65,25.4) 5(1.65,22.86) 6(-1.65,20.32) 7(1.65,17.78) 8(-1.65,15.24) 9(1.65,12.7) 10(-1.65,10.16) 11(1.65,7.62) 12(-1.65,5.08) 13(1.65,2.54) 14(-1.65,0) 15(1.65,-2.54) 16(-1.65,-5.08) 17(1.65,-7.62) 18(-1.65,-10.16) 19(1.65,-12.7) 20(-1.65,-15.24) 21(1.65,-17.78) 22(-1.65,-20.32) 23(1.65,-22.86) 24(-1.65,-25.4) 25(1.65,-27.94) 26(-1.65,-30.48) 27(1.65,-33.02)
F.SilkS:
  lines w0.254: -1.33,-31.24 -1.33,-34.45 1.33,-34.45 1.33,-33.78 ; -1.33,-29.72 -1.33,-26.16 ; -1.33,-24.64 -1.33,-21.08 ; -1.33,-19.56 -1.33,-16 ; -1.33,-14.48 -1.33,-10.92 ; -1.33,-9.4 -1.33,-5.84 ; -1.33,-4.32 -1.33,-0.76 ; -1.33,0.76 -1.33,4.32 ; -1.33,5.84 -1.33,9.4 ; -1.33,10.92 -1.33,14.48 ; -1.33,16 -1.33,19.56 ; -1.33,21.08 -1.33,24.64 ; -1.33,26.16 -1.33,29.72 ; -1.33,31.24 -1.33,34.45 1.33,34.45 1.33,33.78 2.54,33.78 ; 1.33,-32.26 1.33,-28.7 ; 1.33,-27.18 1.33,-23.62 ; 1.33,-22.1 1.33,-18.54 ; 1.33,-17.02 1.33,-13.46 ; 1.33,-11.94 1.33,-8.38 ; 1.33,-6.86 1.33,-3.3 ; 1.33,-1.78 1.33,1.78 ; 1.33,3.3 1.33,6.86 ; 1.33,8.38 1.33,11.94 ; 1.33,13.46 1.33,17.02 ; 1.33,18.54 1.33,22.1 ; 1.33,23.62 1.33,27.18 ; 1.33,28.7 1.33,32.26
Top Assembly:
  lines w0.254: -1.27,-30.78 -2.27,-30.78 -2.27,-30.18 -1.27,-30.18 ; -1.27,-25.7 -2.27,-25.7 -2.27,-25.1 -1.27,-25.1 ; -1.27,-20.62 -2.27,-20.62 -2.27,-20.02 -1.27,-20.02 ; -1.27,-15.54 -2.27,-15.54 -2.27,-14.94 -1.27,-14.94 ; -1.27,-10.46 -2.27,-10.46 -2.27,-9.86 -1.27,-9.86 ; -1.27,-5.38 -2.27,-5.38 -2.27,-4.78 -1.27,-4.78 ; -1.27,-0.3 -2.27,-0.3 -2.27,0.3 -1.27,0.3 ; -1.27,4.78 -2.27,4.78 -2.27,5.38 -1.27,5.38 ; -1.27,9.86 -2.27,9.86 -2.27,10.46 -1.27,10.46 ; -1.27,14.94 -2.27,14.94 -2.27,15.54 -1.27,15.54 ; -1.27,20.02 -2.27,20.02 -2.27,20.62 -1.27,20.62 ; -1.27,25.1 -2.27,25.1 -2.27,25.7 -1.27,25.7 ; -1.27,30.18 -2.27,30.18 -2.27,30.78 -1.27,30.78 ; 1.27,-33.32 2.27,-33.32 2.27,-32.72 1.27,-32.72 ; 1.27,-28.24 2.27,-28.24 2.27,-27.64 1.27,-27.64 ; 1.27,-23.16 2.27,-23.16 2.27,-22.56 1.27,-22.56 ; 1.27,-18.08 2.27,-18.08 2.27,-17.48 1.27,-17.48 ; 1.27,-13 2.27,-13 2.27,-12.4 1.27,-12.4 ; 1.27,-7.92 2.27,-7.92 2.27,-7.32 1.27,-7.32 ; 1.27,-2.84 2.27,-2.84 2.27,-2.24 1.27,-2.24 ; 1.27,2.24 2.27,2.24 2.27,2.84 1.27,2.84 ; 1.27,7.32 2.27,7.32 2.27,7.92 1.27,7.92 ; 1.27,12.4 2.27,12.4 2.27,13 1.27,13 ; 1.27,17.48 2.27,17.48 2.27,18.08 1.27,18.08 ; 1.27,22.56 2.27,22.56 2.27,23.16 1.27,23.16 ; 1.27,27.64 2.27,27.64 2.27,28.24 1.27,28.24 ; 1.27,32.72 2.27,32.72 2.27,33.32 1.27,33.32 ; -1.27,-34.39 1.27,-34.39 1.27,33.755 0.635,34.39 -1.27,34.39 -1.27,-34.39
  text "'.Designator'" at 0.84,-4.047 h1
Top Courtyard:
  lines w0.254: -3.1,-34.9 3.1,-34.9 3.1,34.9 -3.1,34.9 -3.1,-34.9
Top Designator:
  text ".Designator" at -7.618,-0.508 h1.52

## PinSocket_1x28_P2.54mm_Horizontal [mm]
pads (28):
  rect 1.7x1.7 hole 1: 1(0,0)
  round 1.7 hole 1: 2(0,-2.54) 3(0,-5.08) 4(0,-7.62) 5(0,-10.16) 6(0,-12.7) 7(0,-15.24) 8(0,-17.78) 9(0,-20.32) 10(0,-22.86) 11(0,-25.4) 12(0,-27.94) 13(0,-30.48) 14(0,-33.02) 15(0,-35.56) 16(0,-38.1) 17(0,-40.64) 18(0,-43.18) 19(0,-45.72) 20(0,-48.26) 21(0,-50.8) 22(0,-53.34) 23(0,-55.88) 24(0,-58.42) 25(0,-60.96) 26(0,-63.5) 27(0,-66.04) 28(0,-68.58)
F.SilkS:
  lines w0.254: -10.09,-67.31 -1.46,-67.31 ; -10.09,-64.77 -1.46,-64.77 ; -10.09,-62.23 -1.46,-62.23 ; -10.09,-59.69 -1.46,-59.69 ; -10.09,-57.15 -1.46,-57.15 ; -10.09,-54.61 -1.46,-54.61 ; -10.09,-52.07 -1.46,-52.07 ; -10.09,-49.53 -1.46,-49.53 ; -10.09,-46.99 -1.46,-46.99 ; -10.09,-44.45 -1.46,-44.45 ; -10.09,-41.91 -1.46,-41.91 ; -10.09,-39.37 -1.46,-39.37 ; -10.09,-36.83 -1.46,-36.83 ; -10.09,-34.29 -1.46,-34.29 ; -10.09,-31.75 -1.46,-31.75 ; -10.09,-29.21 -1.46,-29.21 ; -10.09,-26.67 -1.46,-26.67 ; -10.09,-24.13 -1.46,-24.13 ; -10.09,-21.59 -1.46,-21.59 ; -10.09,-19.05 -1.46,-19.05 ; -10.09,-16.51 -1.46,-16.51 ; -10.09,-13.97 -1.46,-13.97 ; -10.09,-11.43 -1.46,-11.43 ; -10.09,-8.89 -1.46,-8.89 ; -10.09,-6.35 -1.46,-6.35 ; -10.09,-3.81 -1.46,-3.81 ; -10.09,-1.27 -1.46,-1.27 ; -10.09,-1.152 -1.46,-1.152 ; -10.09,-1.034 -1.46,-1.034 ; -10.09,-0.916 -1.46,-0.916 ; -10.09,-0.798 -1.46,-0.798 ; -10.09,-0.68 -1.46,-0.68 ; -10.09,-0.561 -1.46,-0.561 ; -10.09,-0.443 -1.46,-0.443 ; -10.09,-0.325 -1.46,-0.325 ; -10.09,-0.207 -1.46,-0.207 ; -10.09,-0.089 -1.46,-0.089 ; -10.09,0.029 -1.46,0.029 ; -10.09,0.147 -1.46,0.147 ; -10.09,0.265 -1.46,0.265 ; -10.09,0.383 -1.46,0.383 ; -10.09,0.501 -1.46,0.501 ; -10.09,0.62 -1.46,0.62 ; -10.09,0.738 -1.46,0.738 ; -10.09,0.856 -1.46,0.856 ; -10.09,0.974 -1.46,0.974 ; -10.09,1.092 -1.46,1.092 ; -10.09,1.21 -1.46,1.21 ; -1.46,-68.94 -1.05,-68.94 ; -1.46,-68.22 -1.05,-68.22 ; -1.46,-66.4 -1.05,-66.4 ; -1.46,-65.68 -1.05,-65.68 ; -1.46,-63.86 -1.05,-63.86 ; -1.46,-63.14 -1.05,-63.14 ; -1.46,-61.32 -1.05,-61.32 ; -1.46,-60.6 -1.05,-60.6 ; -1.46,-58.78 -1.05,-58.78 ; -1.46,-58.06 -1.05,-58.06 ; -1.46,-56.24 -1.05,-56.24 ; -1.46,-55.52 -1.05,-55.52 ; -1.46,-53.7 -1.05,-53.7 ; -1.46,-52.98 -1.05,-52.98 ; -1.46,-51.16 -1.05,-51.16 ; -1.46,-50.44 -1.05,-50.44 ; -1.46,-48.62 -1.05,-48.62 ; -1.46,-47.9 -1.05,-47.9 ; -1.46,-46.08 -1.05,-46.08 ; -1.46,-45.36 -1.05,-45.36 ; -1.46,-43.54 -1.05,-43.54 ; -1.46,-42.82 -1.05,-42.82 ; -1.46,-41 -1.05,-41 ; -1.46,-40.28 -1.05,-40.28 ; -1.46,-38.46 -1.05,-38.46 ; -1.46,-37.74 -1.05,-37.74 ; -1.46,-35.92 -1.05,-35.92 ; -1.46,-35.2 -1.05,-35.2 ; -1.46,-33.38 -1.05,-33.38 ; -1.46,-32.66 -1.05,-32.66 ; -1.46,-30.84 -1.05,-30.84 ; -1.46,-30.12 -1.05,-30.12 ; -1.46,-28.3 -1.05,-28.3 ; -1.46,-27.58 -1.05,-27.58 ; -1.46,-25.76 -1.05,-25.76 ; -1.46,-25.04 -1.05,-25.04 ; -1.46,-23.22 -1.05,-23.22 ; -1.46,-22.5 -1.05,-22.5 ; -1.46,-20.68 -1.05,-20.68 ; -1.46,-19.96 -1.05,-19.96 ; -1.46,-18.14 -1.05,-18.14 ; -1.46,-17.42 -1.05,-17.42 ; -1.46,-15.6 -1.05,-15.6 ; -1.46,-14.88 -1.05,-14.88 ; -1.46,-13.06 -1.05,-13.06 ; -1.46,-12.34 -1.05,-12.34 ; -1.46,-10.52 -1.05,-10.52 ; -1.46,-9.8 -1.05,-9.8 ; -1.46,-7.98 -1.05,-7.98 ; -1.46,-7.26 -1.05,-7.26 ; -1.46,-5.44 -1.05,-5.44 ; -1.46,-4.72 -1.05,-4.72 ; -1.46,-2.9 -1.05,-2.9 ; -1.46,-2.18 -1.05,-2.18 ; -1.46,-0.36 -1.11,-0.36 ; -1.46,0.36 -1.11,0.36 ; 0,1.33 1.11,1.33 1.11,0 ; -10.09,-69.91 -1.46,-69.91 -1.46,1.33 -10.09,1.33 -10.09,-69.91
Top Assembly:
  lines w0.254: -1.52,-68.88 0,-68.88 0,-68.28 -1.52,-68.28 ; -1.52,-66.34 0,-66.34 0,-65.74 -1.52,-65.74 ; -1.52,-63.8 0,-63.8 0,-63.2 -1.52,-63.2 ; -1.52,-61.26 0,-61.26 0,-60.66 -1.52,-60.66 ; -1.52,-58.72 0,-58.72 0,-58.12 -1.52,-58.12 ; -1.52,-56.18 0,-56.18 0,-55.58 -1.52,-55.58 ; -1.52,-53.64 0,-53.64 0,-53.04 -1.52,-53.04 ; -1.52,-51.1 0,-51.1 0,-50.5 -1.52,-50.5 ; -1.52,-48.56 0,-48.56 0,-47.96 -1.52,-47.96 ; -1.52,-46.02 0,-46.02 0,-45.42 -1.52,-45.42 ; -1.52,-43.48 0,-43.48 0,-42.88 -1.52,-42.88 ; -1.52,-40.94 0,-40.94 0,-40.34 -1.52,-40.34 ; -1.52,-38.4 0,-38.4 0,-37.8 -1.52,-37.8 ; -1.52,-35.86 0,-35.86 0,-35.26 -1.52,-35.26 ; -1.52,-33.32 0,-33.32 0,-32.72 -1.52,-32.72 ; -1.52,-30.78 0,-30.78 0,-30.18 -1.52,-30.18 ; -1.52,-28.24 0,-28.24 0,-27.64 -1.52,-27.64 ; -1.52,-25.7 0,-25.7 0,-25.1 -1.52,-25.1 ; -1.52,-23.16 0,-23.16 0,-22.56 -1.52,-22.56 ; -1.52,-20.62 0,-20.62 0,-20.02 -1.52,-20.02 ; -1.52,-18.08 0,-18.08 0,-17.48 -1.52,-17.48 ; -1.52,-15.54 0,-15.54 0,-14.94 -1.52,-14.94 ; -1.52,-13 0,-13 0,-12.4 -1.52,-12.4 ; -1.52,-10.46 0,-10.46 0,-9.86 -1.52,-9.86 ; -1.52,-7.92 0,-7.92 0,-7.32 -1.52,-7.32 ; -1.52,-5.38 0,-5.38 0,-4.78 -1.52,-4.78 ; -1.52,-2.84 0,-2.84 0,-2.24 -1.52,-2.24 ; -1.52,-0.3 0,-0.3 0,0.3 -1.52,0.3 ; -1.52,0.3 -1.52,-69.85 -10.03,-69.85 -10.03,1.27 -2.49,1.27 -1.52,0.3
  text "'.Designator'" at -4.935,-38.337 h1
Top Courtyard:
  lines w0.254: -10.55,-70.35 1.75,-70.35 1.75,1.8 -10.55,1.8 -10.55,-70.35
Top Designator:
  text ".Designator" at -12.018,-34.783 h1.52

## PinSocket_1x28_P2.54mm_Vertical [mm]
pads (28):
  rect 1.7x1.7 hole 1: 1(0,0)
  round 1.7 hole 1: 2(0,-2.54) 3(0,-5.08) 4(0,-7.62) 5(0,-10.16) 6(0,-12.7) 7(0,-15.24) 8(0,-17.78) 9(0,-20.32) 10(0,-22.86) 11(0,-25.4) 12(0,-27.94) 13(0,-30.48) 14(0,-33.02) 15(0,-35.56) 16(0,-38.1) 17(0,-40.64) 18(0,-43.18) 19(0,-45.72) 20(0,-48.26) 21(0,-50.8) 22(0,-53.34) 23(0,-55.88) 24(0,-58.42) 25(0,-60.96) 26(0,-63.5) 27(0,-66.04) 28(0,-68.58)
F.SilkS:
  lines w0.254: 0,1.33 1.33,1.33 1.33,0 ; -1.33,-69.91 1.33,-69.91 1.33,-1.27 -1.33,-1.27 -1.33,-69.91
Top Assembly:
  lines w0.254: -1.27,-69.85 1.27,-69.85 1.27,0.635 0.635,1.27 -1.27,1.27 -1.27,-69.85
  text "'.Designator'" at 0.84,-38.337 h1
Top Courtyard:
  lines w0.254: -1.8,-70.35 1.75,-70.35 1.75,1.8 -1.8,1.8 -1.8,-70.35
Top Designator:
  text ".Designator" at -7.643,-34.783 h1.52

## PinSocket_1x28_P2.54mm_Vertical_SMD_Pin1Left [mm]
pads (28):
  rect 1.9x1 smd: 1(-1.65,34.29) 2(1.65,31.75) 3(-1.65,29.21) 4(1.65,26.67) 5(-1.65,24.13) 6(1.65,21.59) 7(-1.65,19.05) 8(1.65,16.51) 9(-1.65,13.97) 10(1.65,11.43) 11(-1.65,8.89) 12(1.65,6.35) 13(-1.65,3.81) 14(1.65,1.27) 15(-1.65,-1.27) 16(1.65,-3.81) 17(-1.65,-6.35) 18(1.65,-8.89) 19(-1.65,-11.43) 20(1.65,-13.97) 21(-1.65,-16.51) 22(1.65,-19.05) 23(-1.65,-21.59) 24(1.65,-24.13) 25(-1.65,-26.67) 26(1.65,-29.21) 27(-1.65,-31.75) 28(1.65,-34.29)
F.SilkS:
  lines w0.254: -2.54,35.05 -1.33,35.05 -1.33,35.72 1.33,35.72 1.33,32.51 ; -1.33,-32.51 -1.33,-35.72 1.33,-35.72 1.33,-35.05 ; -1.33,-30.99 -1.33,-27.43 ; -1.33,-25.91 -1.33,-22.35 ; -1.33,-20.83 -1.33,-17.27 ; -1.33,-15.75 -1.33,-12.19 ; -1.33,-10.67 -1.33,-7.11 ; -1.33,-5.59 -1.33,-2.03 ; -1.33,-0.51 -1.33,3.05 ; -1.33,4.57 -1.33,8.13 ; -1.33,9.65 -1.33,13.21 ; -1.33,14.73 -1.33,18.29 ; -1.33,19.81 -1.33,23.37 ; -1.33,24.89 -1.33,28.45 ; -1.33,29.97 -1.33,33.53 ; 1.33,-33.53 1.33,-29.97 ; 1.33,-28.45 1.33,-24.89 ; 1.33,-23.37 1.33,-19.81 ; 1.33,-18.29 1.33,-14.73 ; 1.33,-13.21 1.33,-9.65 ; 1.33,-8.13 1.33,-4.57 ; 1.33,-3.05 1.33,0.51 ; 1.33,2.03 1.33,5.59 ; 1.33,7.11 1.33,10.67 ; 1.33,12.19 1.33,15.75 ; 1.33,17.27 1.33,20.83 ; 1.33,22.35 1.33,25.91 ; 1.33,27.43 1.33,30.99
Top Assembly:
  lines w0.254: -1.27,-32.05 -2.27,-32.05 -2.27,-31.45 -1.27,-31.45 ; -1.27,-26.97 -2.27,-26.97 -2.27,-26.37 -1.27,-26.37 ; -1.27,-21.89 -2.27,-21.89 -2.27,-21.29 -1.27,-21.29 ; -1.27,-16.81 -2.27,-16.81 -2.27,-16.21 -1.27,-16.21 ; -1.27,-11.73 -2.27,-11.73 -2.27,-11.13 -1.27,-11.13 ; -1.27,-6.65 -2.27,-6.65 -2.27,-6.05 -1.27,-6.05 ; -1.27,-1.57 -2.27,-1.57 -2.27,-0.97 -1.27,-0.97 ; -1.27,3.51 -2.27,3.51 -2.27,4.11 -1.27,4.11 ; -1.27,8.59 -2.27,8.59 -2.27,9.19 -1.27,9.19 ; -1.27,13.67 -2.27,13.67 -2.27,14.27 -1.27,14.27 ; -1.27,18.75 -2.27,18.75 -2.27,19.35 -1.27,19.35 ; -1.27,23.83 -2.27,23.83 -2.27,24.43 -1.27,24.43 ; -1.27,28.91 -2.27,28.91 -2.27,29.51 -1.27,29.51 ; -1.27,33.99 -2.27,33.99 -2.27,34.59 -1.27,34.59 ; 1.27,-34.59 2.27,-34.59 2.27,-33.99 1.27,-33.99 ; 1.27,-29.51 2.27,-29.51 2.27,-28.91 1.27,-28.91 ; 1.27,-24.43 2.27,-24.43 2.27,-23.83 1.27,-23.83 ; 1.27,-19.35 2.27,-19.35 2.27,-18.75 1.27,-18.75 ; 1.27,-14.27 2.27,-14.27 2.27,-13.67 1.27,-13.67 ; 1.27,-9.19 2.27,-9.19 2.27,-8.59 1.27,-8.59 ; 1.27,-4.11 2.27,-4.11 2.27,-3.51 1.27,-3.51 ; 1.27,0.97 2.27,0.97 2.27,1.57 1.27,1.57 ; 1.27,6.05 2.27,6.05 2.27,6.65 1.27,6.65 ; 1.27,11.13 2.27,11.13 2.27,11.73 1.27,11.73 ; 1.27,16.21 2.27,16.21 2.27,16.81 1.27,16.81 ; 1.27,21.29 2.27,21.29 2.27,21.89 1.27,21.89 ; 1.27,26.37 2.27,26.37 2.27,26.97 1.27,26.97 ; 1.27,31.45 2.27,31.45 2.27,32.05 1.27,32.05 ; -1.27,-35.66 1.27,-35.66 1.27,35.66 -0.635,35.66 -1.27,35.025 -1.27,-35.66
  text "'.Designator'" at 0.84,-4.047 h1
Top Courtyard:
  lines w0.254: -3.1,-36.15 3.1,-36.15 3.1,36.2 -3.1,36.2 -3.1,-36.15
Top Designator:
  text ".Designator" at -7.618,-0.483 h1.52

## PinSocket_1x28_P2.54mm_Vertical_SMD_Pin1Right [mm]
pads (28):
  rect 1.9x1 smd: 1(1.65,34.29) 2(-1.65,31.75) 3(1.65,29.21) 4(-1.65,26.67) 5(1.65,24.13) 6(-1.65,21.59) 7(1.65,19.05) 8(-1.65,16.51) 9(1.65,13.97) 10(-1.65,11.43) 11(1.65,8.89) 12(-1.65,6.35) 13(1.65,3.81) 14(-1.65,1.27) 15(1.65,-1.27) 16(-1.65,-3.81) 17(1.65,-6.35) 18(-1.65,-8.89) 19(1.65,-11.43) 20(-1.65,-13.97) 21(1.65,-16.51) 22(-1.65,-19.05) 23(1.65,-21.59) 24(-1.65,-24.13) 25(1.65,-26.67) 26(-1.65,-29.21) 27(1.65,-31.75) 28(-1.65,-34.29)
F.SilkS:
  lines w0.254: -1.33,-35.05 -1.33,-35.72 1.33,-35.72 1.33,-32.51 ; -1.33,-33.53 -1.33,-29.97 ; -1.33,-28.45 -1.33,-24.89 ; -1.33,-23.37 -1.33,-19.81 ; -1.33,-18.29 -1.33,-14.73 ; -1.33,-13.21 -1.33,-9.65 ; -1.33,-8.13 -1.33,-4.57 ; -1.33,-3.05 -1.33,0.51 ; -1.33,2.03 -1.33,5.59 ; -1.33,7.11 -1.33,10.67 ; -1.33,12.19 -1.33,15.75 ; -1.33,17.27 -1.33,20.83 ; -1.33,22.35 -1.33,25.91 ; -1.33,27.43 -1.33,30.99 ; -1.33,32.51 -1.33,35.72 1.33,35.72 1.33,35.05 2.54,35.05 ; 1.33,-30.99 1.33,-27.43 ; 1.33,-25.91 1.33,-22.35 ; 1.33,-20.83 1.33,-17.27 ; 1.33,-15.75 1.33,-12.19 ; 1.33,-10.67 1.33,-7.11 ; 1.33,-5.59 1.33,-2.03 ; 1.33,-0.51 1.33,3.05 ; 1.33,4.57 1.33,8.13 ; 1.33,9.65 1.33,13.21 ; 1.33,14.73 1.33,18.29 ; 1.33,19.81 1.33,23.37 ; 1.33,24.89 1.33,28.45 ; 1.33,29.97 1.33,33.53
Top Assembly:
  lines w0.254: -1.27,-34.59 -2.27,-34.59 -2.27,-33.99 -1.27,-33.99 ; -1.27,-29.51 -2.27,-29.51 -2.27,-28.91 -1.27,-28.91 ; -1.27,-24.43 -2.27,-24.43 -2.27,-23.83 -1.27,-23.83 ; -1.27,-19.35 -2.27,-19.35 -2.27,-18.75 -1.27,-18.75 ; -1.27,-14.27 -2.27,-14.27 -2.27,-13.67 -1.27,-13.67 ; -1.27,-9.19 -2.27,-9.19 -2.27,-8.59 -1.27,-8.59 ; -1.27,-4.11 -2.27,-4.11 -2.27,-3.51 -1.27,-3.51 ; -1.27,0.97 -2.27,0.97 -2.27,1.57 -1.27,1.57 ; -1.27,6.05 -2.27,6.05 -2.27,6.65 -1.27,6.65 ; -1.27,11.13 -2.27,11.13 -2.27,11.73 -1.27,11.73 ; -1.27,16.21 -2.27,16.21 -2.27,16.81 -1.27,16.81 ; -1.27,21.29 -2.27,21.29 -2.27,21.89 -1.27,21.89 ; -1.27,26.37 -2.27,26.37 -2.27,26.97 -1.27,26.97 ; -1.27,31.45 -2.27,31.45 -2.27,32.05 -1.27,32.05 ; 1.27,-32.05 2.27,-32.05 2.27,-31.45 1.27,-31.45 ; 1.27,-26.97 2.27,-26.97 2.27,-26.37 1.27,-26.37 ; 1.27,-21.89 2.27,-21.89 2.27,-21.29 1.27,-21.29 ; 1.27,-16.81 2.27,-16.81 2.27,-16.21 1.27,-16.21 ; 1.27,-11.73 2.27,-11.73 2.27,-11.13 1.27,-11.13 ; 1.27,-6.65 2.27,-6.65 2.27,-6.05 1.27,-6.05 ; 1.27,-1.57 2.27,-1.57 2.27,-0.97 1.27,-0.97 ; 1.27,3.51 2.27,3.51 2.27,4.11 1.27,4.11 ; 1.27,8.59 2.27,8.59 2.27,9.19 1.27,9.19 ; 1.27,13.67 2.27,13.67 2.27,14.27 1.27,14.27 ; 1.27,18.75 2.27,18.75 2.27,19.35 1.27,19.35 ; 1.27,23.83 2.27,23.83 2.27,24.43 1.27,24.43 ; 1.27,28.91 2.27,28.91 2.27,29.51 1.27,29.51 ; 1.27,33.99 2.27,33.99 2.27,34.59 1.27,34.59 ; -1.27,-35.66 1.27,-35.66 1.27,35.025 0.635,35.66 -1.27,35.66 -1.27,-35.66
  text "'.Designator'" at 0.84,-4.047 h1
Top Courtyard:
  lines w0.254: -3.1,-36.15 3.1,-36.15 3.1,36.2 -3.1,36.2 -3.1,-36.15
Top Designator:
  text ".Designator" at -7.618,-0.483 h1.52

## PinSocket_1x29_P2.54mm_Horizontal [mm]
pads (29):
  rect 1.7x1.7 hole 1: 1(0,0)
  round 1.7 hole 1: 2(0,-2.54) 3(0,-5.08) 4(0,-7.62) 5(0,-10.16) 6(0,-12.7) 7(0,-15.24) 8(0,-17.78) 9(0,-20.32) 10(0,-22.86) 11(0,-25.4) 12(0,-27.94) 13(0,-30.48) 14(0,-33.02) 15(0,-35.56) 16(0,-38.1) 17(0,-40.64) 18(0,-43.18) 19(0,-45.72) 20(0,-48.26) 21(0,-50.8) 22(0,-53.34) 23(0,-55.88) 24(0,-58.42) 25(0,-60.96) 26(0,-63.5) 27(0,-66.04) 28(0,-68.58) 29(0,-71.12)
F.SilkS:
  lines w0.254: -10.09,-69.85 -1.46,-69.85 ; -10.09,-67.31 -1.46,-67.31 ; -10.09,-64.77 -1.46,-64.77 ; -10.09,-62.23 -1.46,-62.23 ; -10.09,-59.69 -1.46,-59.69 ; -10.09,-57.15 -1.46,-57.15 ; -10.09,-54.61 -1.46,-54.61 ; -10.09,-52.07 -1.46,-52.07 ; -10.09,-49.53 -1.46,-49.53 ; -10.09,-46.99 -1.46,-46.99 ; -10.09,-44.45 -1.46,-44.45 ; -10.09,-41.91 -1.46,-41.91 ; -10.09,-39.37 -1.46,-39.37 ; -10.09,-36.83 -1.46,-36.83 ; -10.09,-34.29 -1.46,-34.29 ; -10.09,-31.75 -1.46,-31.75 ; -10.09,-29.21 -1.46,-29.21 ; -10.09,-26.67 -1.46,-26.67 ; -10.09,-24.13 -1.46,-24.13 ; -10.09,-21.59 -1.46,-21.59 ; -10.09,-19.05 -1.46,-19.05 ; -10.09,-16.51 -1.46,-16.51 ; -10.09,-13.97 -1.46,-13.97 ; -10.09,-11.43 -1.46,-11.43 ; -10.09,-8.89 -1.46,-8.89 ; -10.09,-6.35 -1.46,-6.35 ; -10.09,-3.81 -1.46,-3.81 ; -10.09,-1.27 -1.46,-1.27 ; -10.09,-1.152 -1.46,-1.152 ; -10.09,-1.034 -1.46,-1.034 ; -10.09,-0.916 -1.46,-0.916 ; -10.09,-0.798 -1.46,-0.798 ; -10.09,-0.68 -1.46,-0.68 ; -10.09,-0.561 -1.46,-0.561 ; -10.09,-0.443 -1.46,-0.443 ; -10.09,-0.325 -1.46,-0.325 ; -10.09,-0.207 -1.46,-0.207 ; -10.09,-0.089 -1.46,-0.089 ; -10.09,0.029 -1.46,0.029 ; -10.09,0.147 -1.46,0.147 ; -10.09,0.265 -1.46,0.265 ; -10.09,0.383 -1.46,0.383 ; -10.09,0.501 -1.46,0.501 ; -10.09,0.62 -1.46,0.62 ; -10.09,0.738 -1.46,0.738 ; -10.09,0.856 -1.46,0.856 ; -10.09,0.974 -1.46,0.974 ; -10.09,1.092 -1.46,1.092 ; -10.09,1.21 -1.46,1.21 ; -1.46,-71.48 -1.05,-71.48 ; -1.46,-70.76 -1.05,-70.76 ; -1.46,-68.94 -1.05,-68.94 ; -1.46,-68.22 -1.05,-68.22 ; -1.46,-66.4 -1.05,-66.4 ; -1.46,-65.68 -1.05,-65.68 ; -1.46,-63.86 -1.05,-63.86 ; -1.46,-63.14 -1.05,-63.14 ; -1.46,-61.32 -1.05,-61.32 ; -1.46,-60.6 -1.05,-60.6 ; -1.46,-58.78 -1.05,-58.78 ; -1.46,-58.06 -1.05,-58.06 ; -1.46,-56.24 -1.05,-56.24 ; -1.46,-55.52 -1.05,-55.52 ; -1.46,-53.7 -1.05,-53.7 ; -1.46,-52.98 -1.05,-52.98 ; -1.46,-51.16 -1.05,-51.16 ; -1.46,-50.44 -1.05,-50.44 ; -1.46,-48.62 -1.05,-48.62 ; -1.46,-47.9 -1.05,-47.9 ; -1.46,-46.08 -1.05,-46.08 ; -1.46,-45.36 -1.05,-45.36 ; -1.46,-43.54 -1.05,-43.54 ; -1.46,-42.82 -1.05,-42.82 ; -1.46,-41 -1.05,-41 ; -1.46,-40.28 -1.05,-40.28 ; -1.46,-38.46 -1.05,-38.46 ; -1.46,-37.74 -1.05,-37.74 ; -1.46,-35.92 -1.05,-35.92 ; -1.46,-35.2 -1.05,-35.2 ; -1.46,-33.38 -1.05,-33.38 ; -1.46,-32.66 -1.05,-32.66 ; -1.46,-30.84 -1.05,-30.84 ; -1.46,-30.12 -1.05,-30.12 ; -1.46,-28.3 -1.05,-28.3 ; -1.46,-27.58 -1.05,-27.58 ; -1.46,-25.76 -1.05,-25.76 ; -1.46,-25.04 -1.05,-25.04 ; -1.46,-23.22 -1.05,-23.22 ; -1.46,-22.5 -1.05,-22.5 ; -1.46,-20.68 -1.05,-20.68 ; -1.46,-19.96 -1.05,-19.96 ; -1.46,-18.14 -1.05,-18.14 ; -1.46,-17.42 -1.05,-17.42 ; -1.46,-15.6 -1.05,-15.6 ; -1.46,-14.88 -1.05,-14.88 ; -1.46,-13.06 -1.05,-13.06 ; -1.46,-12.34 -1.05,-12.34 ; -1.46,-10.52 -1.05,-10.52 ; -1.46,-9.8 -1.05,-9.8 ; -1.46,-7.98 -1.05,-7.98 ; -1.46,-7.26 -1.05,-7.26 ; -1.46,-5.44 -1.05,-5.44 ; -1.46,-4.72 -1.05,-4.72 ; -1.46,-2.9 -1.05,-2.9 ; -1.46,-2.18 -1.05,-2.18 ; -1.46,-0.36 -1.11,-0.36 ; -1.46,0.36 -1.11,0.36 ; 0,1.33 1.11,1.33 1.11,0 ; -10.09,-72.45 -1.46,-72.45 -1.46,1.33 -10.09,1.33 -10.09,-72.45
Top Assembly:
  lines w0.254: -1.52,-71.42 0,-71.42 0,-70.82 -1.52,-70.82 ; -1.52,-68.88 0,-68.88 0,-68.28 -1.52,-68.28 ; -1.52,-66.34 0,-66.34 0,-65.74 -1.52,-65.74 ; -1.52,-63.8 0,-63.8 0,-63.2 -1.52,-63.2 ; -1.52,-61.26 0,-61.26 0,-60.66 -1.52,-60.66 ; -1.52,-58.72 0,-58.72 0,-58.12 -1.52,-58.12 ; -1.52,-56.18 0,-56.18 0,-55.58 -1.52,-55.58 ; -1.52,-53.64 0,-53.64 0,-53.04 -1.52,-53.04 ; -1.52,-51.1 0,-51.1 0,-50.5 -1.52,-50.5 ; -1.52,-48.56 0,-48.56 0,-47.96 -1.52,-47.96 ; -1.52,-46.02 0,-46.02 0,-45.42 -1.52,-45.42 ; -1.52,-43.48 0,-43.48 0,-42.88 -1.52,-42.88 ; -1.52,-40.94 0,-40.94 0,-40.34 -1.52,-40.34 ; -1.52,-38.4 0,-38.4 0,-37.8 -1.52,-37.8 ; -1.52,-35.86 0,-35.86 0,-35.26 -1.52,-35.26 ; -1.52,-33.32 0,-33.32 0,-32.72 -1.52,-32.72 ; -1.52,-30.78 0,-30.78 0,-30.18 -1.52,-30.18 ; -1.52,-28.24 0,-28.24 0,-27.64 -1.52,-27.64 ; -1.52,-25.7 0,-25.7 0,-25.1 -1.52,-25.1 ; -1.52,-23.16 0,-23.16 0,-22.56 -1.52,-22.56 ; -1.52,-20.62 0,-20.62 0,-20.02 -1.52,-20.02 ; -1.52,-18.08 0,-18.08 0,-17.48 -1.52,-17.48 ; -1.52,-15.54 0,-15.54 0,-14.94 -1.52,-14.94 ; -1.52,-13 0,-13 0,-12.4 -1.52,-12.4 ; -1.52,-10.46 0,-10.46 0,-9.86 -1.52,-9.86 ; -1.52,-7.92 0,-7.92 0,-7.32 -1.52,-7.32 ; -1.52,-5.38 0,-5.38 0,-4.78 -1.52,-4.78 ; -1.52,-2.84 0,-2.84 0,-2.24 -1.52,-2.24 ; -1.52,-0.3 0,-0.3 0,0.3 -1.52,0.3 ; -1.52,0.3 -1.52,-72.39 -10.03,-72.39 -10.03,1.27 -2.49,1.27 -1.52,0.3
  text "'.Designator'" at -4.935,-39.607 h1
Top Courtyard:
  lines w0.254: -10.55,-72.95 1.75,-72.95 1.75,1.75 -10.55,1.75 -10.55,-72.95
Top Designator:
  text ".Designator" at -12.018,-36.108 h1.52

## PinSocket_1x29_P2.54mm_Vertical [mm]
pads (29):
  rect 1.7x1.7 hole 1: 1(0,0)
  round 1.7 hole 1: 2(0,-2.54) 3(0,-5.08) 4(0,-7.62) 5(0,-10.16) 6(0,-12.7) 7(0,-15.24) 8(0,-17.78) 9(0,-20.32) 10(0,-22.86) 11(0,-25.4) 12(0,-27.94) 13(0,-30.48) 14(0,-33.02) 15(0,-35.56) 16(0,-38.1) 17(0,-40.64) 18(0,-43.18) 19(0,-45.72) 20(0,-48.26) 21(0,-50.8) 22(0,-53.34) 23(0,-55.88) 24(0,-58.42) 25(0,-60.96) 26(0,-63.5) 27(0,-66.04) 28(0,-68.58) 29(0,-71.12)
F.SilkS:
  lines w0.254: 0,1.33 1.33,1.33 1.33,0 ; -1.33,-72.45 1.33,-72.45 1.33,-1.27 -1.33,-1.27 -1.33,-72.45
Top Assembly:
  lines w0.254: -1.27,-72.39 1.27,-72.39 1.27,0.635 0.635,1.27 -1.27,1.27 -1.27,-72.39
  text "'.Designator'" at 0.84,-39.607 h1
Top Courtyard:
  lines w0.254: -1.8,-72.9 1.75,-72.9 1.75,1.8 -1.8,1.8 -1.8,-72.9
Top Designator:
  text ".Designator" at -7.643,-36.058 h1.52